# EAGLE library part LM2931AD50R (library ST Microelectronics)
Very low drop voltage regulators with inhibit function
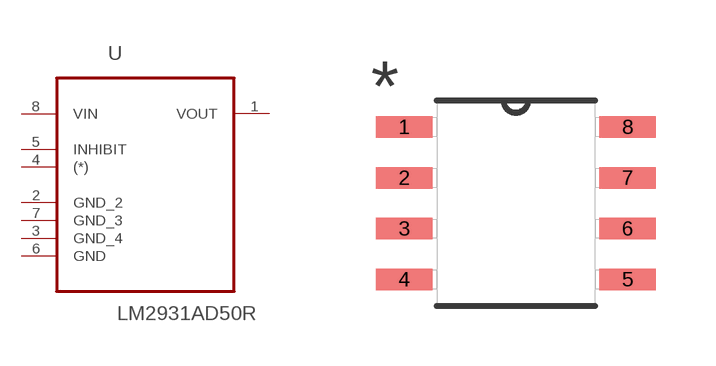
[diagram p105: symbol with the pads of SOIC127P600X175-8N; footprint SOIC127P600X175-8N]

Designator prefix U

## LM2931AD50R (MPN: LM2931AD50R; OC_FARNELL: 1261352; OC_NEWARK: 89K1303; PACKAGE: SOIC-8; SUPPLIER: STMICROELECTRONICS)  [SOIC127P600X175-8N]
1  VOUT  out
2  GND_2  pas
3  GND_4  pas
4  (*)  pas
5  INHIBIT  nc
6  GND  pas
7  GND_3  pas
8  VIN  pwr

## Footprint SOIC127P600X175-8N (pad centres in mm)
smd 1.422 x 0.533: 1 -2.794,1.905; 2 -2.794,0.635; 3 -2.794,-0.635; 4 -2.794,-1.905; 5 2.794,-1.905; 6 2.794,-0.635; 7 2.794,0.635; 8 2.794,1.905